# Altium footprint library Inductance.PcbLib: 6 footprints
Each footprint in its own frame and in the unit in brackets; x right, y up, seen from the top. Pads: shape width x height; smd on the part's side, far side on the other; paste and mask are expansions set on the pad; w line width, h text height; cw(c..) or ccw(c..) is an arc to the next point about the centre after c.
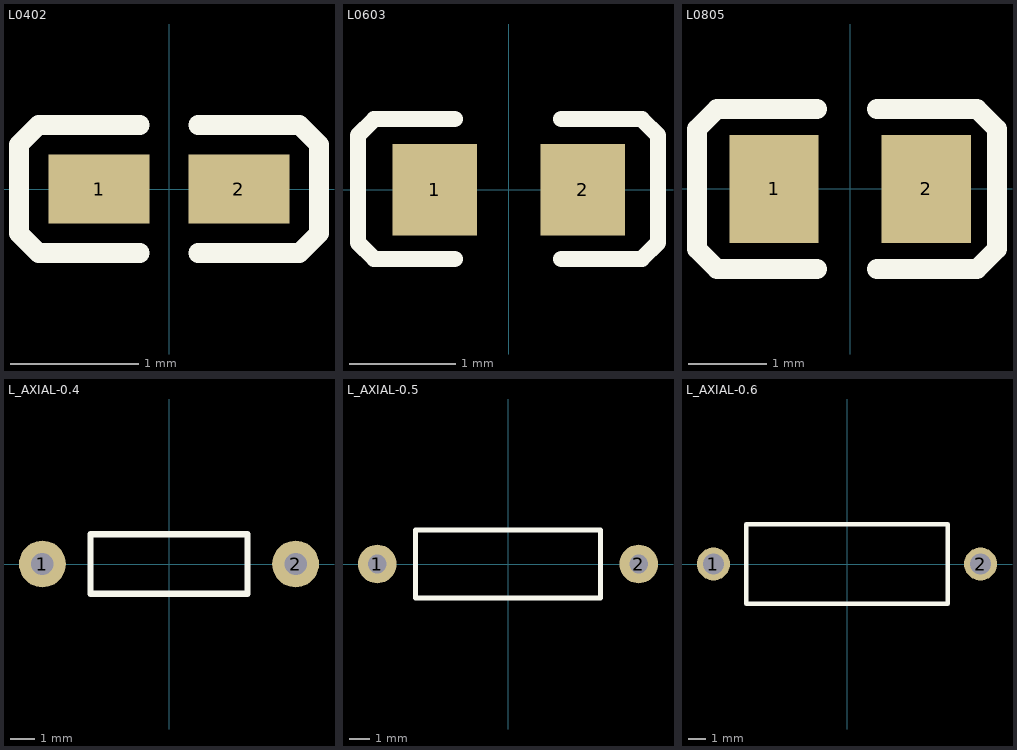
[diagram p0: the footprints below, top view; thin cyan lines are the x and y axes]

## L0402 [mm] "贴片电感"
pads (2):
  rect 0.79x0.54 smd paste-100 mask+0.051: 1(-0.545,0) 2(0.545,0)
Top Overlay:
  lines w0.152: -0.226,-0.499 -1.016,-0.499 -1.169,-0.346 -1.169,0.346 -1.016,0.499 -0.226,0.499 ; 0.226,-0.499 1.016,-0.499 1.169,-0.346 1.169,0.346 1.016,0.499 0.226,0.499
Top Paste:
  region: 0.135,-0.086 0.135,0.086 0.404,0.27 0.9,0.27 0.94,0.23 0.94,-0.23 0.9,-0.27 0.404,-0.27
  region: -0.135,-0.086 -0.135,0.086 -0.404,0.27 -0.9,0.27 -0.94,0.23 -0.94,-0.23 -0.9,-0.27 -0.404,-0.27

## L0603 [mm] "贴片电感"
pads (2):
  rect 0.8x0.864 smd paste-100 mask+0.051: 1(-0.7,0) 2(0.7,0)
Top Overlay:
  lines w0.152: -0.51,-0.651 -1.272,-0.651 -1.424,-0.499 -1.424,0.517 -1.272,0.67 -0.51,0.67 ; 0.496,-0.651 1.258,-0.651 1.411,-0.499 1.411,0.517 1.258,0.67 0.496,0.67
Top Paste:
  region: 0.264,0.154 0.264,-0.122 0.538,-0.416 1.042,-0.416 1.106,-0.352 1.106,0.384 1.042,0.448 0.538,0.448
  region: -0.252,0.143 -0.252,-0.134 -0.526,-0.427 -1.029,-0.427 -1.093,-0.363 -1.093,0.373 -1.029,0.437 -0.526,0.437

## L0805 [mil] "贴片电感"
pads (2):
  rect 44.59x54.21 smd paste-3937.01 mask+2: 1(-38.05,0) 2(38.04,0)
Top Overlay:
  lines w10: -16.59,-40 -66.58,-40 -76.58,-30 -76.58,-25 -76.58,30 -66.58,40 -61.59,40 -16.59,40 ; 13.41,-40 58.41,-40 63.41,-40 73.42,-30 73.42,25 73.42,30 63.41,40 13.41,40
Top Paste:
  region: 14.17,-8.67 14.17,8.68 29.33,27.11 56.4,27.11 60.34,23.17 60.34,-23.17 56.4,-27.1 29.33,-27.1
  region: -14.17,-8.67 -14.17,8.68 -29.33,27.11 -56.4,27.11 -60.34,23.17 -60.34,-23.17 -56.4,-27.1 -29.33,-27.1

## L_AXIAL-0.4 [mil] "直插电感"
pads (2):
  round 74 hole 35.4 paste-99999 mask+2: 1(-200,0) 2(200,0)
Top Overlay:
  lines w10: -124,-47 -124,47 124,47 124,-47 -124,-47

## L_AXIAL-0.5 [mil] "直插电感"
pads (2):
  round 74 hole 35.4 paste-99999 mask+2: 1(-250,0) 2(250,0)
Top Overlay:
  lines w10: -177,-65 -177,65 177,65 177,-65 -177,-65

## L_AXIAL-0.6 [mil] "直插电感"
pads (2):
  round 74 hole 47.2 paste-99999 mask+2: 1(-300,0) 2(300,0)
Top Overlay:
  lines w10: -226,-89 -226,89 226,89 226,-89 -226,-89